# EAGLE library part MILLI-GRID-06 (library con-molex)
Milli-Grid Pin Header 2.00mm (.079") Pitch
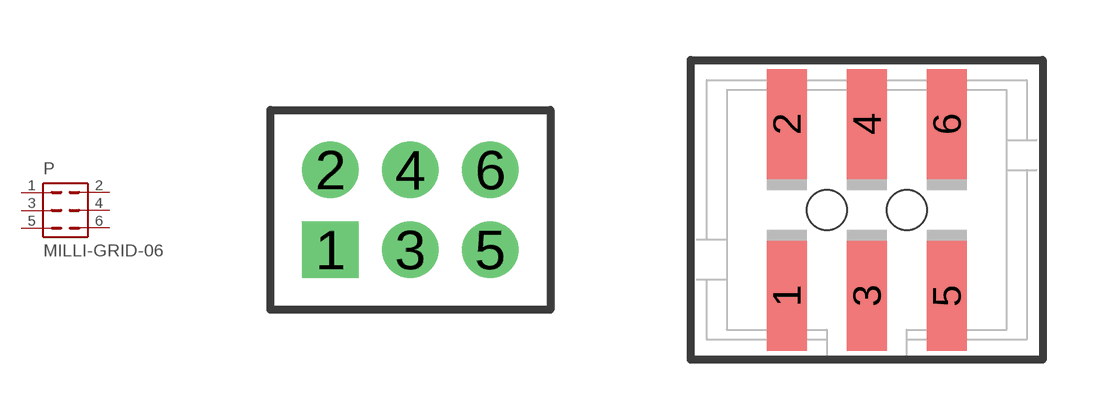
[diagram p51: symbol with the pads of 87758-06; footprints 87758-06, 87832-06]

Designator prefix P

## MILLI-GRID-06-87758  [87758-06]
1  1  pas
2  2  pas
3  3  pas
4  4  pas
5  5  pas
6  6  pas

## MILLI-GRID-06-87832  [87832-06]
Pads as for 87758-06

## MILLI-GRID-06-79109  [79109-06]
Pads as for 87758-06

## MILLI-GRID-06-87340  [87340-06]
Pads as for 87758-06

## MILLI-GRID-06-79107  [79107-06]
Pads as for 87758-06

## Footprint 87758-06 (pad centres in mm)
PCB Pin Headers 2.00mm (.079") Pitch Milli-Grid Header, Vertical
drill 0.914 square: 1 -2,-1
drill 0.914: 2 -2,1; 3 0,-1; 4 0,1; 5 2,-1; 6 2,1

## Footprint 87832-06 (pad centres in mm)
PCB Headers 2.00mm (.079") Pitch Milli-Grid Header, Vertical, Shrouded
smd 1 x 2.75: 1 -2,-2.15; 2 -2,2.15; 3 0,-2.15; 4 0,2.15; 5 2,-2.15; 6 2,2.15
hole 1 at -1,0
hole 1 at 1,0

## Footprint 79109-06 (pad centres in mm)
Board-to-Board Receptacal 2.00mm (.079") Pitch Milli-Grid Header, Vertical, Top/Bottom Entry Mates with: 87758, 87759, 87760, 87831, 87832, 87833
smd 1.12 x 1.83: 1 -2,-2.65; 2 -2,2.65; 3 0,-2.65; 4 0,2.65; 5 2,-2.65; 6 2,2.65
hole 0.914 at -1,0
hole 0.914 at -2,1
hole 0.914 at -2,-1
hole 0.914 at 0,-1
hole 0.914 at 0,1
hole 0.914 at 2,-1
hole 0.914 at 2,1
hole 0.914 at 1,0

## Footprint 87340-06 (pad centres in mm)
Board-To-Board Receptacal 2.00mm (.079") Pitch Milli-Grid Header, Vertical, Top/Bottom Entry Mates with: 87758, 87759, 87760, 87831, 87832, 87833
smd 1 x 1.75: 1 -2,-2.5; 2 -2,2.5; 3 0,-2.5; 4 0,2.5; 5 2,-2.5; 6 2,2.5
hole 0.914 at -3,0
hole 0.914 at -2,1
hole 0.914 at -2,-1
hole 0.914 at 0,-1
hole 0.914 at 0,1
hole 0.914 at 3,0
hole 0.914 at 2,1
hole 0.914 at 2,-1

## Footprint 79107-06 (pad centres in mm)
Board-To-Board Receptacal 2.00mm (.079") Pitch Milli-Grid Header, Vertical, Through-Hole Mates with: 87759, 87762, 87758, 87760
drill 0.914 square: 1 -2,-1
drill 0.914: 2 -2,1; 3 0,-1; 4 0,1; 5 2,-1; 6 2,1